# Altium schematic symbol library E22-900M22S.SchLib: 1 symbol
Pins are listed as number, name and electrical type; pins without a type are passive.

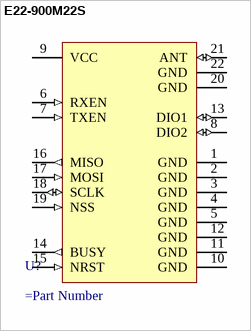
[diagram p0: symbol E22-900M22S]

## E22-900M22S
designator U?
=Description
pins: 1 GND (power), 2 GND (power), 3 GND (power), 4 GND (power), 5 GND (power), 6 RXEN (in), 7 TXEN (in), 8 DIO2 (io), 9 VCC (power), 10 GND (power), 11 GND (power), 12 GND (power), 13 DIO1 (io), 14 BUSY (out), 15 NRST (in), 16 MISO (out), 17 MOSI (in), 18 SCLK (io), 19 NSS (in), 20 GND (power), 21 ANT (io), 22 GND (power)